# EAGLE library part 22SW (library 2回路SW)
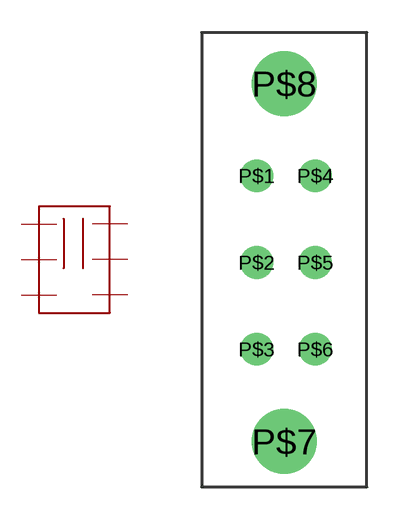
[diagram p0: symbol with the pads of ２２ｓｗ; footprint ２２ｓｗ]

Designator prefix -

## 22SW  [２２ｓｗ]
P$1  P$1
P$2  P$2
P$3  P$3
P$4  P$4
P$5  P$5
P$6  P$6

## Footprint ２２ｓｗ (pad centres in mm)
drill 1: P$1 0,8; P$2 0,4; P$3 0,0; P$4 2.7,8; P$5 2.7,4; P$6 2.7,0
drill 2: P$7 1.27,-4.25; P$8 1.27,12.25